# Altium schematic symbol library NR01105ANG13-2C.SchLib: 1 symbol
Pins are listed as number, name and electrical type; pins without a type are passive.

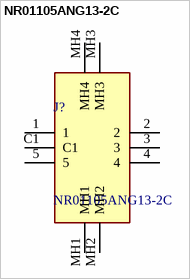
[diagram p0: symbol NR01105ANG13-2C]

## NR01105ANG13-2C
designator J?
NKK SWITCHES - NR01105ANG13-2C - ROTARY SWITCH, SP5T, 0.4VA, 28VAC/DC, TH; Geometry.Height: 17.2mm; Mouser Part Number: 633-NR01105ANG13-2C; Mouser Price/Stock: https://www.mouser.co.uk/ProductDetail/NKK-Switches/NR01105ANG13-2C?qs=EU6FO9ffTwe1KMswS2eoPA%3D%3D; Manufacturer_Name: NKK Switches; Manufacturer_Part_Number: NR01105ANG13-2C; Datasheet Link: https://componentsearchengine.com/Datasheets/1/NR01105ANG13-2C.pdf
footprint NR01105ANG132C
pins: 1, 2, 3, 4, 5, C1, MH1, MH2, MH3, MH4